# Altium footprint library 封装库.PcbLib: 9 footprints
Each footprint in its own frame and in the unit in brackets; x right, y up, seen from the top. Pads: shape width x height; smd on the part's side, far side on the other; paste and mask are expansions set on the pad; w line width, h text height; cw(c..) or ccw(c..) is an arc to the next point about the centre after c.
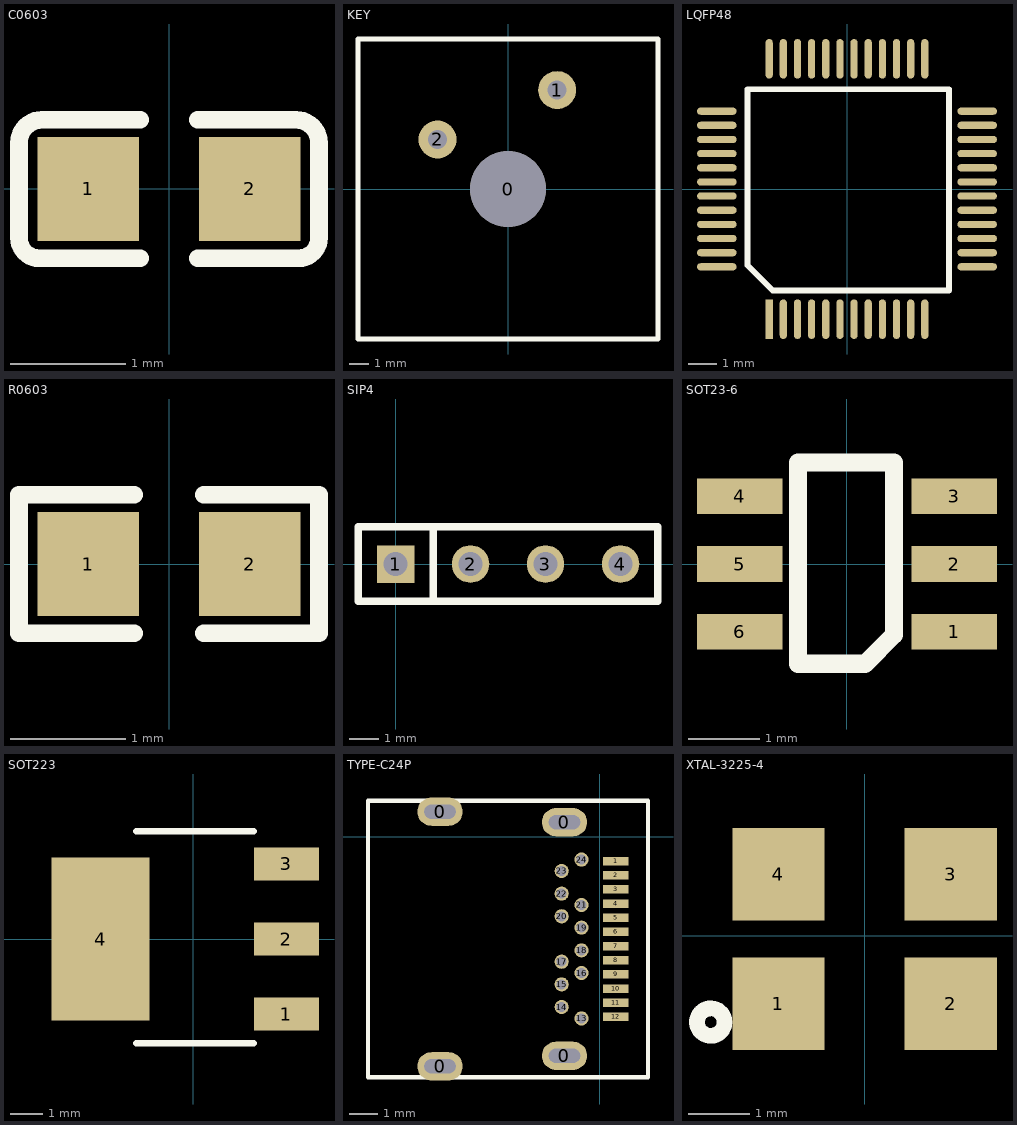
[diagram p0: the footprints below, top view; thin cyan lines are the x and y axes]

## C0603 [mm]
pads (2):
  rect 0.88x0.9 smd mask+0: 1(-0.7,0) 2(0.7,0)
Top Overlay:
  lines w0.152: -1.3,0.375 -1.3,-0.425 ccw(c-1.125,-0.425) -1.125,-0.6 -0.25,-0.6 ; -1.3,0.4 cw(c-1.1,0.4) -1.1,0.6 -0.25,0.6 ; 0.25,-0.6 1.125,-0.6 ccw(c1.125,-0.425) 1.3,-0.425 1.3,0.375 ; 0.25,0.6 1.1,0.6 cw(c1.1,0.4) 1.3,0.4

## KEY [mm]
pads (3):
  round 4 hole 4 unplated: 0(0,0)
  round 2 hole 1: 1(2.591,5.21) 2(-3.709,2.61)
Top Overlay:
  lines w0.254: -7.9,-7.9 -7.9,7.9 7.9,7.9 7.9,-7.9 -7.9,-7.9
3D body: height 15, standoff -5, extent -9,-9 9,9

## LQFP48 [mm]
pads (48):
  rect 0.254x1.4 smd: 1(-2.75,-4.6)
  oval 0.254x1.4 smd: 2(-2.25,-4.6) 3(-1.75,-4.6) 4(-1.25,-4.6) 5(-0.75,-4.6) 6(-0.25,-4.6) 7(0.25,-4.6) 8(0.75,-4.6) 9(1.25,-4.6) 10(1.75,-4.6) 11(2.25,-4.6) 12(2.75,-4.6) 25(2.75,4.6) 26(2.25,4.6) 27(1.75,4.6) 28(1.25,4.6) 29(0.75,4.6) 30(0.25,4.6) 31(-0.25,4.6) 32(-0.75,4.6) 33(-1.25,4.6) 34(-1.75,4.6) 35(-2.25,4.6) 36(-2.75,4.6)
  oval 1.4x0.254 smd: 13(4.6,-2.75) 14(4.6,-2.25) 15(4.6,-1.75) 16(4.6,-1.25) 17(4.6,-0.75) 18(4.6,-0.25) 19(4.6,0.25) 20(4.6,0.75) 21(4.6,1.25) 22(4.6,1.75) 23(4.6,2.25) 24(4.6,2.75) 37(-4.6,2.75) 38(-4.6,2.25) 39(-4.6,1.75) 40(-4.6,1.25) 41(-4.6,0.75) 42(-4.6,0.25) 43(-4.6,-0.25) 44(-4.6,-0.75) 45(-4.6,-1.25) 46(-4.6,-1.75) 47(-4.6,-2.25) 48(-4.6,-2.75)
Top Overlay:
  lines w0.203: -3.512,-2.695 -3.512,3.528 3.6,3.528 3.6,-3.584 -2.623,-3.584 -3.512,-2.695
3D body: height 1.45, standoff 0, extent -4.503,-4.503 4.503,4.503

## R0603 [mm]
height 5.1
pads (2):
  rect 0.88x0.9 smd mask+0: 1(-0.7,0) 2(0.7,0)
Top Overlay:
  lines w0.152: -0.3,-0.6 -1.3,-0.6 -1.3,0.6 -0.3,0.6 ; 0.3,-0.6 1.3,-0.6 1.3,0.6 0.3,0.6
3D body: height 0.45, standoff 0, extent -0.8,-0.41 0.8,0.41

## SIP4 [mil]
pads (4):
  rect 50x50 hole 32: 1(0,0)
  round 50 hole 32: 2(100,0) 3(200,0) 4(300,0)
Top Overlay:
  lines w10: 50,-50 50,50 ; -50,-50 -50,50 350,50 350,-50 -50,-50
3D body: height 334.65, standoff -118.11, extent -50,-50 50,50
3D body: height 334.65, standoff -118.11, extent 50,-50 150,50
3D body: height 334.65, standoff -118.11, extent 150,-50 250,50
3D body: height 334.65, standoff -118.11, extent 250,-50 350,50

## SOT23-6 [mm]
height 1.143
pads (6):
  rect 1.2x0.5 smd: 1(1.5,-0.95) 2(1.5,0) 3(1.5,0.95) 4(-1.5,0.95) 5(-1.5,0) 6(-1.5,-0.95)
Top Overlay:
  lines w0.254: -0.686,-1.397 0.254,-1.397 0.66,-0.991 0.66,1.422 -0.686,1.422 -0.686,-1.397
3D body: height 1, standoff 0, extent -1.196,-1.485 1.144,1.435

## SOT223 [mm]
pads (4):
  rect 2x1 smd: 1(2.85,-2.3) 2(2.85,0) 3(2.85,2.3)
  rect 3x5 smd: 4(-2.85,0)
Top Overlay:
  lines w0.203: -1.75,-3.2 1.85,-3.2 ; -1.75,3.3 1.85,3.3
3D body: height 1.7, standoff 0, extent -3.437,-3.236 3.523,3.264

## TYPE-C24P [mm]
pads (28):
  oval 1.6x1 hole 0.5 slot 1.1 at 0 deg: 0(-5.64,-8.09) 0(-5.64,0.89) 0(-1.25,-7.72) 0(-1.25,0.52)
  rect 0.9x0.3 smd: 1(0.56,-0.85) 2(0.56,-1.35) 3(0.56,-1.85) 4(0.56,-2.35) 5(0.56,-2.85) 6(0.56,-3.35) 7(0.56,-3.85) 8(0.56,-4.35) 9(0.56,-4.85) 10(0.56,-5.35) 11(0.56,-5.85) 12(0.56,-6.35)
  round 0.5 hole 0.35: 13(-0.65,-6.4) 14(-1.35,-6) 15(-1.35,-5.2) 16(-0.65,-4.8) 17(-1.35,-4.4) 18(-0.65,-4) 19(-0.65,-3.2) 20(-1.35,-2.8) 21(-0.65,-2.4) 22(-1.35,-2) 23(-1.35,-1.2) 24(-0.65,-0.8)
Top Overlay:
  lines w0.152: -8.177,-8.475 -8.177,1.275 1.692,1.275 1.692,-8.475 -8.177,-8.475
3D body: height 2.53, standoff 1.27, extent -8.445,-8.737 1.955,-7.482
3D body: height 2.58, standoff 1.32, extent -8.445,0.238 1.955,1.493
3D body: height 2.5, standoff 2, extent -8.577,-8.175 1.823,0.8

## XTAL-3225-4 [mm]
pads (4):
  rect 1.5x1.5 smd: 1(-1.4,-1.1) 2(1.4,-1.1) 3(1.4,1) 4(-1.4,1)
Top Overlay:
  circle w0.254: c-2.5,-1.4 r0.224
3D body: height 0.7, standoff -0.02, extent -1.6,-1.25 1.6,1.25